# Altium footprint library CAPPOL-10x20.PcbLib: 1 footprints
Each footprint in its own frame and in the unit in brackets; x right, y up, seen from the top. Pads: shape width x height; smd on the part's side, far side on the other; paste and mask are expansions set on the pad; w line width, h text height; cw(c..) or ccw(c..) is an arc to the next point about the centre after c.
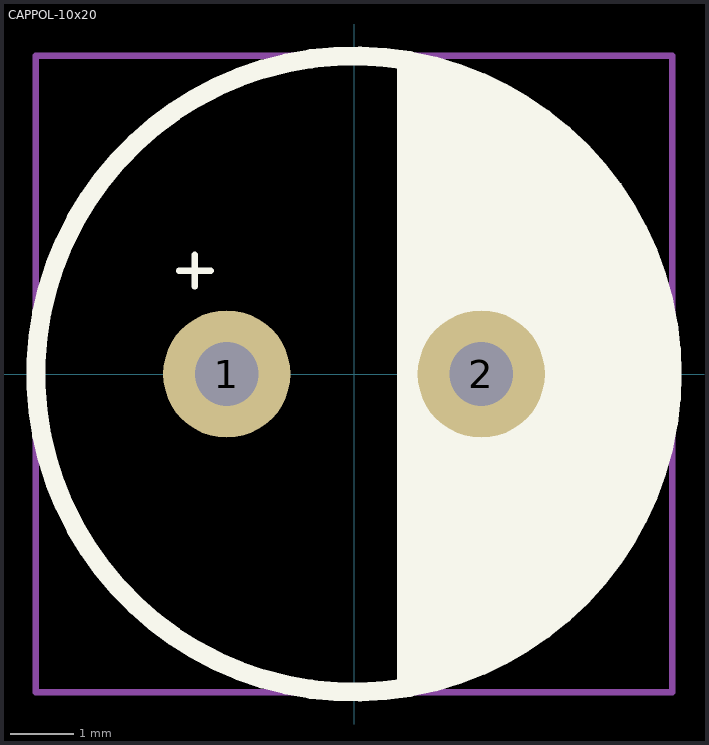
[diagram p0: the footprint, top view; thin cyan lines are the x and y axes]

## CAPPOL-10x20 [mm]
height 0.95
pads (2):
  round 2 hole 1: 1(-2,0) 2(2,0)
Top Overlay:
  circle w0.3: c0,0 r5
  rectangle: 0.8,-4.8 1.6,-4.4
  rectangle: 2,-4.3 2.7,-4
  rectangle: 2.6,-3.8 3.4,-3.3
  rectangle: 3.9,-2.8 4.1,-2.5
  rectangle: 3.6,-1.9 4.6,-1.6
  rectangle: 3.3,-2.6 4.4,-1.9
  rectangle: 2.9,-3.2 4,-2.3
  rectangle: 0.9,-4.6 2.3,-3.8
  rectangle: 3.3,-2.1 4.6,-1.7
  rectangle: 3.5,2.9 3.9,3.3
  rectangle: 2.2,4.1 2.6,4.3
  rectangle: 3.5,2.9 3.6,3.2
  rectangle: 2.9,3.3 3.5,3.7
  rectangle: 2.7,2.5 3.1,3.3
  rectangle: 1.7,4.2 2.3,4.6
  rectangle: 2.7,3.3 3,3.8
  rectangle: 3.3,2.4 4.2,3
  rectangle: 3.5,1.9 4.5,2.5
  rectangle: 2.9,2 4.4,2.2
  rectangle: 3.4,1.6 4.6,2
  rectangle: 4.4,-1 4.9,0.9
  rectangle: 3.4,-1.7 4.8,1.7
  rectangle: 2.7,3.3 3.2,4
  rectangle: 2.8,-3.5 3.7,3.4
  rectangle: 1.3,4.2 1.9,4.7
  rectangle: 1.4,3.8 2.4,4.3
  rectangle: 0.8,4.1 1.5,4.8
  rectangle: 0.9,-4.1 2.9,4.2
  rectangle: 2.5,-4 3.1,-3.5
  lines w0.1: -2.75,1.625 -2.25,1.625 ; -2.5,1.375 -2.5,1.875
  lines w0.254: 0.8,-4.8 0.8,4.8
Top Assembly:
  lines w0.1: -5,-5 5,-5 5,5 -5,5 -5,-5
  text "'.Designator'" at -0.925,-0.325 h0.7
3D body "User Library-Cap-EL(10x20-5).STEP": height 20, standoff -3.3, extent -5,-5 5.002,5